# Altium integrated library Analog Devices Switches and Multiplexers Multiplexers (Muxes).IntLib: 481 symbols (part 22 of 23)
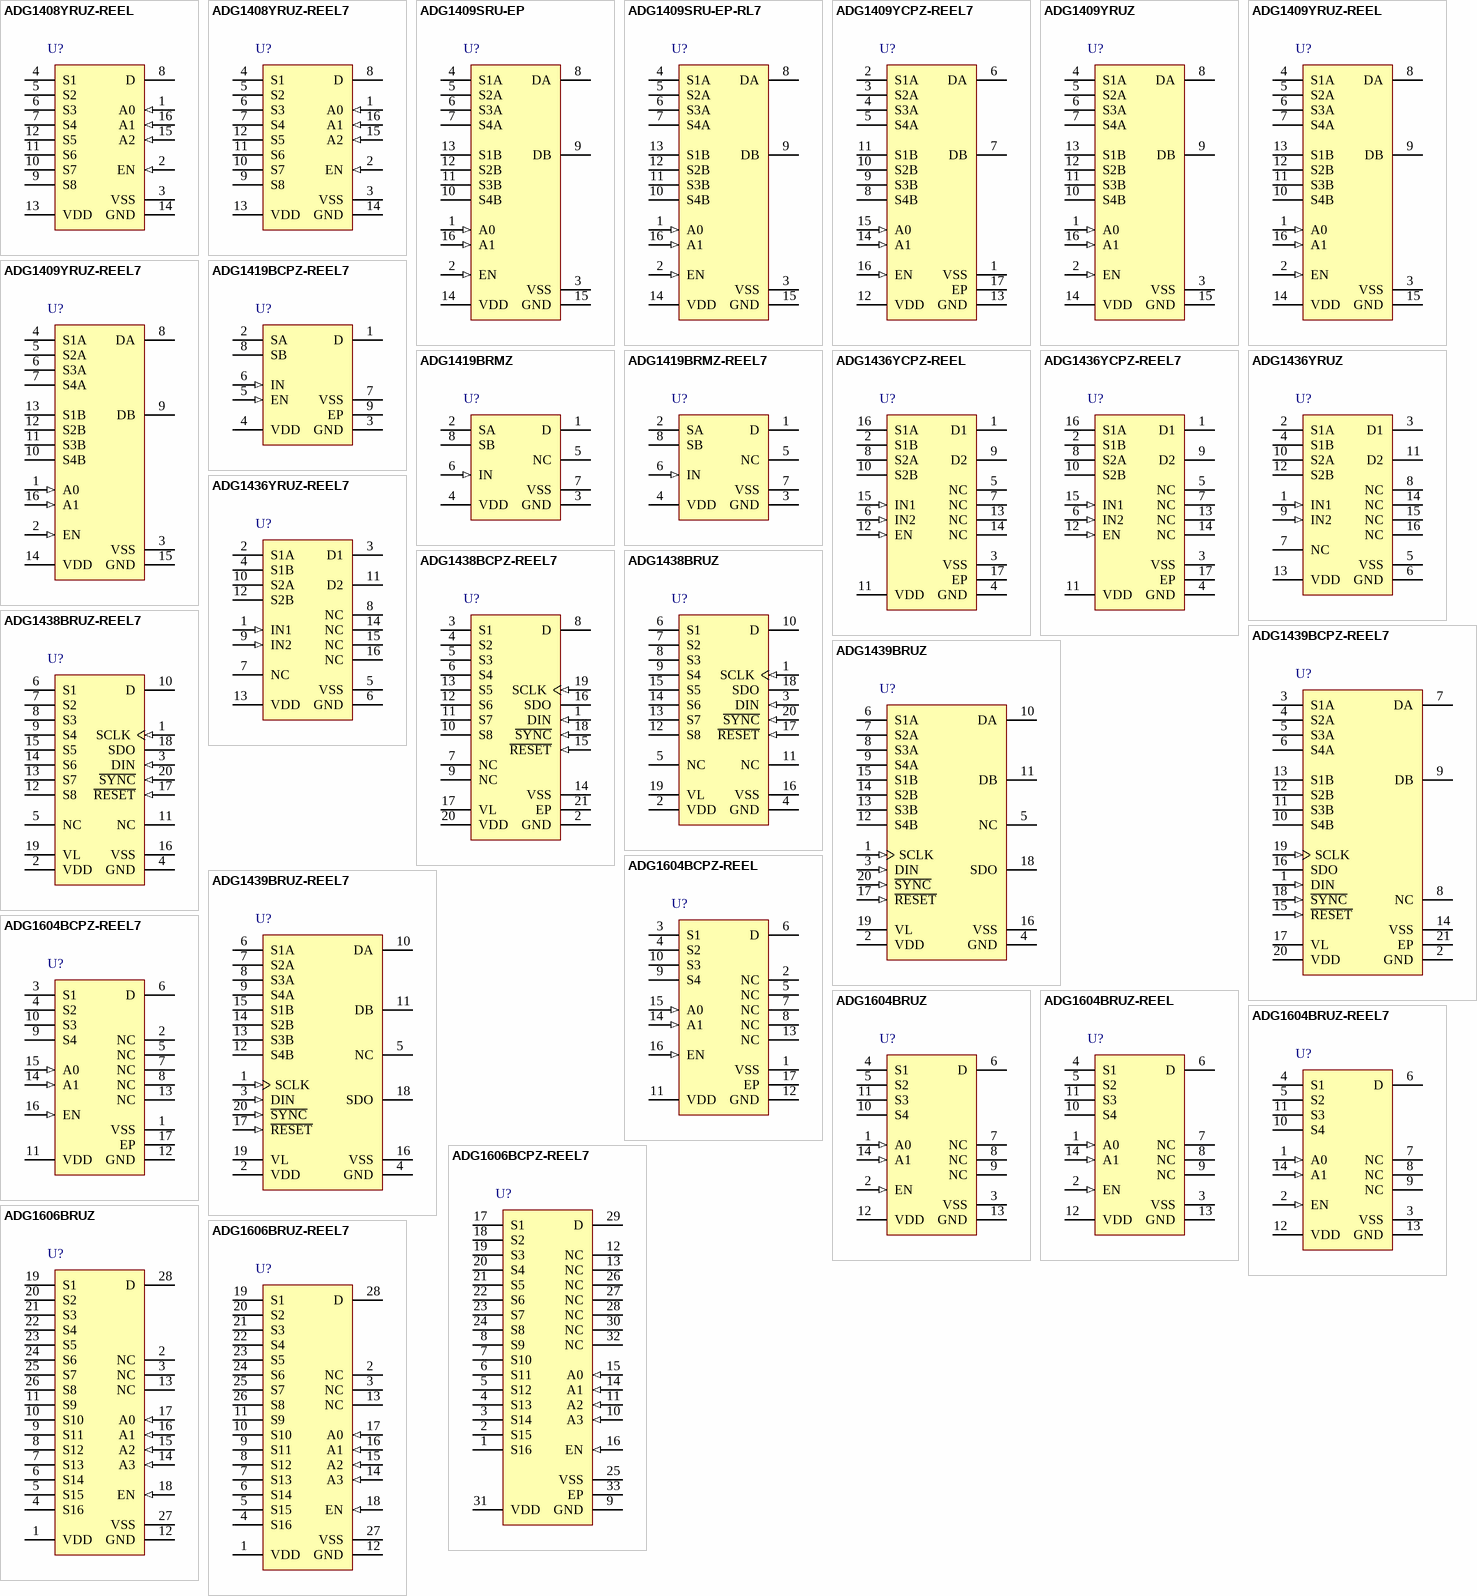
[diagram p38: symbols ADG1408YRUZ-REEL to ADG1606BRUZ-REEL7]

## ADG1606BCPZ-REEL7
designator U?
4.5 Ohm Ron, 16-Channel, +/-5 V, +12 V, +5 V and +3.3 V Multiplexer, 32-pin QFN (CP-32-2), Reel; Manufacturer: Analog Devices; PartNumber: ADG1606BCPZ-REEL7; Bandwidth (Hz): 21M, 22M, 19M, 17M; Max Analog Signal Range: Vss to Vdd; Ron (ohms): 4; t transition (s): 143n; DatasheetVersion: Rev. 0; PackageVersion: Jan-05; PackageReference: CP-32-2; PackageDescription: 32-Pin Lead Frame Chip Scale Package, Body 5 x 5 mm, Pitch 0.5 mm; Supplier 1: Digi-Key; Supplier Part Number 1: ADG1606BCPZ-REEL7TR-ND; Supplier 2: Digi-Key; Supplier Part Number 2: ADG1606BCPZ-REEL7CT-ND; Supplier 3: Digi-Key; Supplier Part Number 3: ADG1606BCPZ-REEL7DKR-ND; Supplier 4: Farnell; Supplier Part Number 4: 2312941; Supplier 5: Newark; Supplier Part Number 5: 63R9735; Supplier 6: Newark; Supplier Part Number 6: 67W3123; Supplier 7: Mouser; Supplier Part Number 7: 584-ADG1606BCPZ-R7; Packing: Reel; Mounting Technology: Surface Mount; Code_JEDEC: MO-220-VHHD-2; ComponentLink1Description: Manufacturer URL; ComponentLink1URL: http://www.analog.com/en/index.html; ComponentLink2Description: Datasheet; ComponentLink2URL: http://www.analog.com/static/imported-files/data_sheets/ADG1606_1607.pdf; ComponentLink3Description: Package Specification; ComponentLink3URL: http://www.analog.com/static/imported-files/packages/414143737956480539664569CP_32_2.pdf
footprint ADI-CP-32-2_N (QFN, 32-Leads, Body 5x5mm, Pitch 0.5mm, Thermal Pad 3.1x3.1mm, IPC Medium Density)
footprint ADI-CP-32-2_L (QFN, 32-Leads, Body 5x5mm, Pitch 0.5mm, Thermal Pad 3.1x3.1mm, IPC High Density)
footprint ADI-CP-32-2_M (QFN, 32-Leads, Body 5x5mm, Pitch 0.5mm, Thermal Pad 3.1x3.1mm, IPC Low Density)
pins: 1 S16 "Source Terminal 16. This pin can be an input or an output.", 2 S15 "Source Terminal 15. This pin can be an input or an output.", 3 S14 "Source Terminal 14. This pin can be an input or an output.", 4 S13 "Source Terminal 13. This pin can be an input or an output.", 5 S12 "Source Terminal 12. This pin can be an input or an output.", 6 S11 "Source Terminal 11. This pin can be an input or an output.", 7 S10 "Source Terminal 10. This pin can be an input or an output.", 8 S9 "Source Terminal 9. This pin can be an input or an output.", 9 GND (power) "Ground (0 V) Reference.", 10 A3 (in) "Logic Control Input.", 11 A2 (in) "Logic Control Input.", 12 NC "No connect.", 13 NC "No connect.", 14 A1 (in) "Logic Control Input.", 15 A0 (in) "Logic Control Input.", 16 EN (in) "Active High Digital Input. When this pin is low, the device is disabled and all switches are turned off. When this pin is high, the Ax logic inputs determine which switch is turned on.", 17 S1 "Source Terminal 1. This pin can be an input or an output.", 18 S2 "Source Terminal 2. This pin can be an input or an output.", 19 S3 "Source Terminal 3. This pin can be an input or an output.", 20 S4 "Source Terminal 4. This pin can be an input or an output.", 21 S5 "Source Terminal 5. This pin can be an input or an output.", 22 S6 "Source Terminal 6. This pin can be an input or an output.", 23 S7 "Source Terminal 7. This pin can be an input or an output.", 24 S8 "Source Terminal 8. This pin can be an input or an output.", 25 VSS (power) "Most Negative Power Supply Potential. In single-supply applications, this pin can be connected to ground.", 26 NC "No connect.", 27 NC "No connect.", 28 NC "No connect.", 29 D "Drain Terminal. This pin can be an input or an output.", 30 NC "No connect.", 31 VDD (power) "Most Positive Power Supply Potential.", 32 NC "No connect.", 33 EP (power) "The exposed pad is connected internally. For increased reliability of the solder joints and maximum thermal capability, it is recommended that the pad be soldered to the substrate, VSS."

## ADG1606BRUZ
designator U?
4.5 Ohm Ron, 16-Channel, +/-5 V, +12 V, +5 V and +3.3 V Multiplexer, 28-pin SOP (RU-28), Tube; Manufacturer: Analog Devices; PartNumber: ADG1606BRUZ; Bandwidth (Hz): 21M, 22M, 19M, 17M; Max Analog Signal Range: Vss to Vdd; Ron (ohms): 4; t transition (s): 143n; DatasheetVersion: Rev. 0; PackageVersion: Mar-05; PackageReference: RU-28; PackageDescription: 28-Pin Thin Shrink Small Outline Package, Body 9.7 x 4.4 mm, Pitch 0.65 mm; Supplier 1: Digi-Key; Supplier Part Number 1: ADG1606BRUZ-ND; Supplier 2: Farnell; Supplier Part Number 2: 1827328; Supplier 3: Newark; Supplier Part Number 3: 52R8046; Supplier 4: Mouser; Supplier Part Number 4: 584-ADG1606BRUZ; Packing: Tube; Mounting Technology: Surface Mount; Code_JEDEC: MO-153-AE; ComponentLink1Description: Manufacturer URL; ComponentLink1URL: http://www.analog.com/en/index.html; ComponentLink2Description: Datasheet; ComponentLink2URL: http://www.analog.com/static/imported-files/data_sheets/ADG1606_1607.pdf; ComponentLink3Description: Package Specification; ComponentLink3URL: http://www.analog.com/static/imported-files/packages/249854663RU_28.pdf
footprint ADI-RU-28_N (SOP, 28-Leads, Body 9.7x4.4mm, Pitch 0.65mm, IPC Medium Density)
footprint ADI-RU-28_L (SOP, 28-Leads, Body 9.7x4.4mm, Pitch 0.65mm, IPC High Density)
footprint ADI-RU-28_M (SOP, 28-Leads, Body 9.7x4.4mm, Pitch 0.65mm, IPC Low Density)
pins: 1 VDD (power) "Most Positive Power Supply Potential.", 2 NC "No Connect.", 3 NC "No Connect.", 4 S16 "Source Terminal 16. This pin can be an input or an output.", 5 S15 "Source Terminal 15. This pin can be an input or an output.", 6 S14 "Source Terminal 14. This pin can be an input or an output.", 7 S13 "Source Terminal 13. This pin can be an input or an output.", 8 S12 "Source Terminal 12. This pin can be an input or an output.", 9 S11 "Source Terminal 11. This pin can be an input or an output.", 10 S10 "Source Terminal 10. This pin can be an input or an output.", 11 S9 "Source Terminal 9. This pin can be an input or an output.", 12 GND (power) "Ground (0 V) Reference.", 13 NC "No Connect.", 14 A3 (in) "Logic Control Input.", 15 A2 (in) "Logic Control Input.", 16 A1 (in) "Logic Control Input.", 17 A0 (in) "Logic Control Input.", 18 EN (in) "Active High Digital Input. When this pin is low, the device is disabled and all switches are turned off. When this pin is high, the Ax logic inputs determine which switch is turned on.", 19 S1 "Source Terminal 1. This pin can be an input or an output.", 20 S2 "Source Terminal 2. This pin can be an input or an output.", 21 S3 "Source Terminal 3. This pin can be an input or an output.", 22 S4 "Source Terminal 4. This pin can be an input or an output.", 23 S5 "Source Terminal 5. This pin can be an input or an output.", 24 S6 "Source Terminal 6. This pin can be an input or an output.", 25 S7 "Source Terminal 7. This pin can be an input or an output.", 26 S8 "Source Terminal 8. This pin can be an input or an output.", 27 VSS (power) "Most Negative Power Supply Potential. In single-supply applications, this pin can be connected to ground.", 28 D "Drain Terminal. This pin can be an input or an output."

## ADG1606BRUZ-REEL7
designator U?
4.5 Ohm Ron, 16-Channel, +/-5 V,+12 V,+5 V and +3.3 V Multiplexer, 28-pin SOP (RU-28), Reel; Manufacturer: Analog Devices; PartNumber: ADG1606BRUZ-REEL7; Bandwidth (Hz): 21M, 22M, 19M, 17M; Max Analog Signal Range: Vss to Vdd; Ron (ohms): 4; t transition (s): 143n; DatasheetVersion: Rev. 0; PackageVersion: Mar-05; PackageReference: RU-28; PackageDescription: 28-Pin Thin Shrink Small Outline Package, Body 9.7 x 4.4 mm, Pitch 0.65 mm; Supplier 1: Digi-Key; Supplier Part Number 1: ADG1606BRUZ-REEL7-ND; Supplier 2: Newark; Supplier Part Number 2: 52R8047; Supplier 3: Mouser; Supplier Part Number 3: 584-ADG1606BRUZ-R7; Packing: Reel; Mounting Technology: Surface Mount; Code_JEDEC: MO-153-AE; ComponentLink1Description: Manufacturer URL; ComponentLink1URL: http://www.analog.com/en/index.html; ComponentLink2Description: Datasheet; ComponentLink2URL: http://www.analog.com/static/imported-files/data_sheets/ADG1606_1607.pdf; ComponentLink3Description: Package Specification; ComponentLink3URL: http://www.analog.com/static/imported-files/packages/249854663RU_28.pdf
footprint ADI-RU-28_N (SOP, 28-Leads, Body 9.7x4.4mm, Pitch 0.65mm, IPC Medium Density)
footprint ADI-RU-28_L (SOP, 28-Leads, Body 9.7x4.4mm, Pitch 0.65mm, IPC High Density)
footprint ADI-RU-28_M (SOP, 28-Leads, Body 9.7x4.4mm, Pitch 0.65mm, IPC Low Density)
pins: 1 VDD (power) "Most Positive Power Supply Potential.", 2 NC "No Connect.", 3 NC "No Connect.", 4 S16 "Source Terminal 16. This pin can be an input or an output.", 5 S15 "Source Terminal 15. This pin can be an input or an output.", 6 S14 "Source Terminal 14. This pin can be an input or an output.", 7 S13 "Source Terminal 13. This pin can be an input or an output.", 8 S12 "Source Terminal 12. This pin can be an input or an output.", 9 S11 "Source Terminal 11. This pin can be an input or an output.", 10 S10 "Source Terminal 10. This pin can be an input or an output.", 11 S9 "Source Terminal 9. This pin can be an input or an output.", 12 GND (power) "Ground (0 V) Reference.", 13 NC "No Connect.", 14 A3 (in) "Logic Control Input.", 15 A2 (in) "Logic Control Input.", 16 A1 (in) "Logic Control Input.", 17 A0 (in) "Logic Control Input.", 18 EN (in) "Active High Digital Input. When this pin is low, the device is disabled and all switches are turned off. When this pin is high, the Ax logic inputs determine which switch is turned on.", 19 S1 "Source Terminal 1. This pin can be an input or an output.", 20 S2 "Source Terminal 2. This pin can be an input or an output.", 21 S3 "Source Terminal 3. This pin can be an input or an output.", 22 S4 "Source Terminal 4. This pin can be an input or an output.", 23 S5 "Source Terminal 5. This pin can be an input or an output.", 24 S6 "Source Terminal 6. This pin can be an input or an output.", 25 S7 "Source Terminal 7. This pin can be an input or an output.", 26 S8 "Source Terminal 8. This pin can be an input or an output.", 27 VSS (power) "Most Negative Power Supply Potential. In single-supply applications, this pin can be connected to ground.", 28 D "Drain Terminal. This pin can be an input or an output."

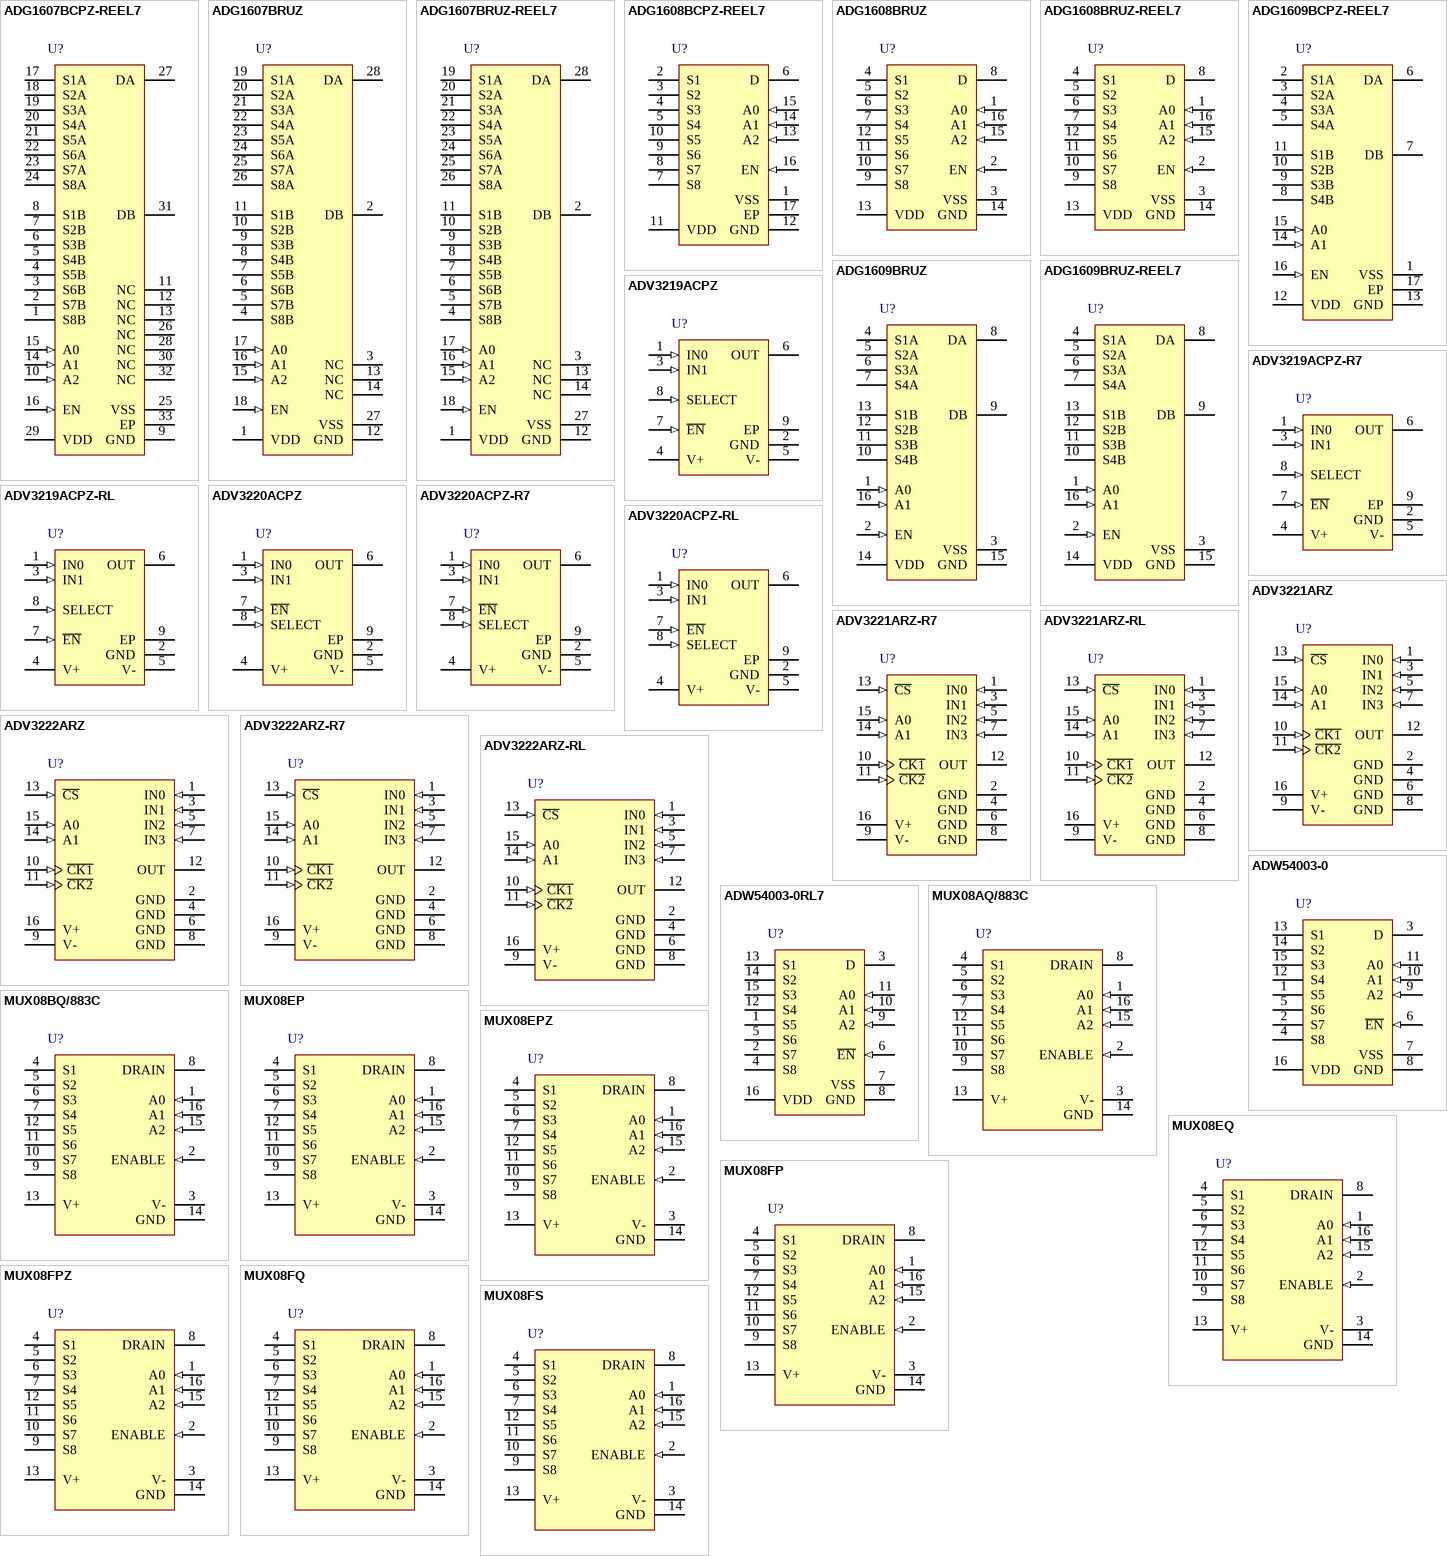
[diagram p16: symbols ADG1607BCPZ-REEL7 to MUX08FS]

## ADG1607BCPZ-REEL7
designator U?
4.5 Ohm RON, Differential 8-Channel, +/-5 V,+12 V,+5 V and +3.3 V Multiplexer, 32-pin QFN (CP-32-2), Reel; Manufacturer: Analog Devices; PartNumber: ADG1607BCPZ-REEL7; Bandwidth (Hz): 37M, 38M, 34M, 31M; Max Analog Signal Range: Vss to Vdd; Ron (ohms): 4; t transition (s): 143n; DatasheetVersion: Rev. 0; PackageVersion: Jan-05; PackageReference: CP-32-2; PackageDescription: 32-Pin Lead Frame Chip Scale Package, Body 5 x 5 mm, Pitch 0.5 mm; Supplier 1: Digi-Key; Supplier Part Number 1: ADG1607BCPZ-REEL7TR-ND; Supplier 2: Digi-Key; Supplier Part Number 2: ADG1607BCPZ-REEL7CT-ND; Supplier 3: Digi-Key; Supplier Part Number 3: ADG1607BCPZ-REEL7DKR-ND; Supplier 4: Mouser; Supplier Part Number 4: 584-ADG1607BCPZ-R7; Packing: Reel; Mounting Technology: Surface Mount; Code_JEDEC: MO-220-VHHD-2; ComponentLink1Description: Manufacturer URL; ComponentLink1URL: http://www.analog.com/en/index.html; ComponentLink2Description: Datasheet; ComponentLink2URL: http://www.analog.com/static/imported-files/data_sheets/ADG1606_1607.pdf; ComponentLink3Description: Package Specification; ComponentLink3URL: http://www.analog.com/static/imported-files/packages/414143737956480539664569CP_32_2.pdf
footprint ADI-CP-32-2_N (QFN, 32-Leads, Body 5x5mm, Pitch 0.5mm, Thermal Pad 3.1x3.1mm, IPC Medium Density)
footprint ADI-CP-32-2_L (QFN, 32-Leads, Body 5x5mm, Pitch 0.5mm, Thermal Pad 3.1x3.1mm, IPC High Density)
footprint ADI-CP-32-2_M (QFN, 32-Leads, Body 5x5mm, Pitch 0.5mm, Thermal Pad 3.1x3.1mm, IPC Low Density)
pins: 1 S8B "Source Terminal 8B. Can be an input or an output.", 2 S7B "Source Terminal 7B. Can be an input or an output.", 3 S6B "Source Terminal 6B. Can be an input or an output.", 4 S5B "Source Terminal 5B. Can be an input or an output.", 5 S4B "Source Terminal 4B. Can be an input or an output.", 6 S3B "Source Terminal 3B. Can be an input or an output.", 7 S2B "Source Terminal 2B. Can be an input or an output.", 8 S1B "Source Terminal 1B. Can be an input or an output.", 9 GND (power) "Ground (0 V) Reference.", 10 A2 (in) "Logic Control Input.", 11 NC "No Connect.", 12 NC "No Connect.", 13 NC "No Connect.", 14 A1 (in) "Logic Control Input.", 15 A0 (in) "Logic Control Input.", 16 EN (in) "Active High Digital Input. When this pin is low, the device is disabled and all switches are turned off. When this pin is high, the Ax logic inputs determine which switch is turned on.", 17 S1A "Source Terminal 1A. Can be an input or an output.", 18 S2A "Source Terminal 2A. Can be an input or an output.", 19 S3A "Source Terminal 3A. Can be an input or an output.", 20 S4A "Source Terminal 4A. Can be an input or an output.", 21 S5A "Source Terminal 5A. Can be an input or an output.", 22 S6A "Source Terminal 6A. Can be an input or an output.", 23 S7A "Source Terminal 7A. Can be an input or an output.", 24 S8A "Source Terminal 8A. Can be an input or an output.", 25 VSS (power) "Most Negative Power Supply Potential. In single-supply applications, this pin can be connected to ground.", 26 NC "No Connect.", 27 DA "Drain Terminal A. Can be an input or an output.", 28 NC "No Connect.", 29 VDD (power) "Most Positive Power Supply Potential.", 30 NC "No Connect.", 31 DB "Drain Terminal B. Can be an input or an output.", 32 NC "No Connect.", 33 EP (power) "Exposed Pad Tied to Substrate, Vss."

## ADG1607BRUZ
designator U?
4.5 Ohm Ron, Differential 8-Channel, +/-5 V, +12 V, +5 V, and +3.3 V Multiplexer, 28-pin SOP (RU-28), Tube; Manufacturer: Analog Devices; PartNumber: ADG1607BRUZ; Bandwidth (Hz): 37M, 38M, 34M, 31M; Max Analog Signal Range: Vss to Vdd; Ron (ohms): 4; t transition (s): 143n; DatasheetVersion: Rev. 0; PackageVersion: Mar-05; PackageReference: RU-28; PackageDescription: 28-Pin Thin Shrink Small Outline Package, Body 9.7 x 4.4 mm, Pitch 0.65 mm; Supplier 1: Digi-Key; Supplier Part Number 1: ADG1607BRUZ-ND; Supplier 2: Farnell; Supplier Part Number 2: 1827329; Supplier 3: Newark; Supplier Part Number 3: 52R8048; Supplier 4: Newark; Supplier Part Number 4: 81R1668; Supplier 5: Mouser; Supplier Part Number 5: 584-ADG1607BRUZ; Packing: Tube; Mounting Technology: Surface Mount; Code_JEDEC: MO-153-AE; ComponentLink1Description: Manufacturer URL; ComponentLink1URL: http://www.analog.com/en/index.html; ComponentLink2Description: Datasheet; ComponentLink2URL: http://www.analog.com/static/imported-files/data_sheets/ADG1606_1607.pdf; ComponentLink3Description: Package Specification; ComponentLink3URL: http://www.analog.com/static/imported-files/packages/249854663RU_28.pdf
footprint ADI-RU-28_N (SOP, 28-Leads, Body 9.7x4.4mm, Pitch 0.65mm, IPC Medium Density)
footprint ADI-RU-28_L (SOP, 28-Leads, Body 9.7x4.4mm, Pitch 0.65mm, IPC High Density)
footprint ADI-RU-28_M (SOP, 28-Leads, Body 9.7x4.4mm, Pitch 0.65mm, IPC Low Density)
pins: 1 VDD (power) "Most Positive Power Supply Potential.", 2 DB "Drain Terminal B. This pin can be an input or an output.", 3 NC "No Connect.", 4 S8B "Source Terminal 8B. This pin can be an input or an output.", 5 S7B "Source Terminal 7B. This pin can be an input or an output.", 6 S6B "Source Terminal 6B. This pin can be an input or an output.", 7 S5B "Source Terminal 5B. This pin can be an input or an output.", 8 S4B "Source Terminal 4B. This pin can be an input or an output.", 9 S3B "Source Terminal 3B. This pin can be an input or an output.", 10 S2B "Source Terminal 2B. This pin can be an input or an output.", 11 S1B "Source Terminal 1B. This pin can be an input or an output.", 12 GND (power) "Ground (0 V) Reference.", 13 NC "No Connect.", 14 NC "No Connect.", 15 A2 (in) "Logic Control Input.", 16 A1 (in) "Logic Control Input.", 17 A0 (in) "Logic Control Input.", 18 EN (in) "Active High Digital Input. When this pin is low, the device is disabled and all switches are turned off. When this pin is high, the Ax logic inputs determine which switch is turned on.", 19 S1A "Source Terminal 1A. This pin can be an input or an output.", 20 S2A "Source Terminal 2A. This pin can be an input or an output.", 21 S3A "Source Terminal 3A. This pin can be an input or an output.", 22 S4A "Source Terminal 4A. This pin can be an input or an output.", 23 S5A "Source Terminal 5A. This pin can be an input or an output.", 24 S6A "Source Terminal 6A. This pin can be an input or an output.", 25 S7A "Source Terminal 7A. This pin can be an input or an output.", 26 S8A "Source Terminal 8A. This pin can be an input or an output.", 27 VSS (power) "Most Negative Power Supply Potential. In single-supply applications, this pin can be connected to ground.", 28 DA "Drain Terminal A. This pin can be an input or an output."

## ADG1607BRUZ-REEL7
designator U?
4.5 Ohm Ron, Differential 8-Channel, +/-5 V,+12 V,+5 V, and +3.3 V Multiplexer, 28-pin SOP (RU-28), Reel; Manufacturer: Analog Devices; PartNumber: ADG1607BRUZ-REEL7; Bandwidth (Hz): 37M, 38M, 34M, 31M; Max Analog Signal Range: Vss to Vdd; Ron (ohms): 4; t transition (s): 143n; DatasheetVersion: Rev. 0; PackageVersion: Mar-05; PackageReference: RU-28; PackageDescription: 28-Pin Thin Shrink Small Outline Package, Body 9.7 x 4.4 mm, Pitch 0.65 mm; Supplier 1: Digi-Key; Supplier Part Number 1: ADG1607BRUZ-REEL7-ND; Supplier 2: Mouser; Supplier Part Number 2: 584-ADG1607BRUZ-R7; Packing: Reel; Mounting Technology: Surface Mount; Code_JEDEC: MO-153-AE; ComponentLink1Description: Manufacturer URL; ComponentLink1URL: http://www.analog.com/en/index.html; ComponentLink2Description: Datasheet; ComponentLink2URL: http://www.analog.com/static/imported-files/data_sheets/ADG1606_1607.pdf; ComponentLink3Description: Package Specification; ComponentLink3URL: http://www.analog.com/static/imported-files/packages/249854663RU_28.pdf
footprint ADI-RU-28_N (SOP, 28-Leads, Body 9.7x4.4mm, Pitch 0.65mm, IPC Medium Density)
footprint ADI-RU-28_L (SOP, 28-Leads, Body 9.7x4.4mm, Pitch 0.65mm, IPC High Density)
footprint ADI-RU-28_M (SOP, 28-Leads, Body 9.7x4.4mm, Pitch 0.65mm, IPC Low Density)
pins: 1 VDD (power) "Most Positive Power Supply Potential.", 2 DB "Drain Terminal B. This pin can be an input or an output.", 3 NC "No Connect.", 4 S8B "Source Terminal 8B. This pin can be an input or an output.", 5 S7B "Source Terminal 7B. This pin can be an input or an output.", 6 S6B "Source Terminal 6B. This pin can be an input or an output.", 7 S5B "Source Terminal 5B. This pin can be an input or an output.", 8 S4B "Source Terminal 4B. This pin can be an input or an output.", 9 S3B "Source Terminal 3B. This pin can be an input or an output.", 10 S2B "Source Terminal 2B. This pin can be an input or an output.", 11 S1B "Source Terminal 1B. This pin can be an input or an output.", 12 GND (power) "Ground (0 V) Reference.", 13 NC "No Connect.", 14 NC "No Connect.", 15 A2 (in) "Logic Control Input.", 16 A1 (in) "Logic Control Input.", 17 A0 (in) "Logic Control Input.", 18 EN (in) "Active High Digital Input. When this pin is low, the device is disabled and all switches are turned off. When this pin is high, the Ax logic inputs determine which switch is turned on.", 19 S1A "Source Terminal 1A. This pin can be an input or an output.", 20 S2A "Source Terminal 2A. This pin can be an input or an output.", 21 S3A "Source Terminal 3A. This pin can be an input or an output.", 22 S4A "Source Terminal 4A. This pin can be an input or an output.", 23 S5A "Source Terminal 5A. This pin can be an input or an output.", 24 S6A "Source Terminal 6A. This pin can be an input or an output.", 25 S7A "Source Terminal 7A. This pin can be an input or an output.", 26 S8A "Source Terminal 8A. This pin can be an input or an output.", 27 VSS (power) "Most Negative Power Supply Potential. In single-supply applications, this pin can be connected to ground.", 28 DA "Drain Terminal A. This pin can be an input or an output."

## ADG1608BCPZ-REEL7
designator U?
4.5 Ohm Ron, 8-Channel +/-5 V, +12 V, +5 V and +3.3 V Multiplexer, 16-pin QFN (CP-16-22), Reel; Manufacturer: Analog Devices; PartNumber: ADG1608BCPZ-REEL7; Bandwidth (Hz): 40M, 40M, 37M, 34M; Max Analog Signal Range: 0 to Vdd; Ron (ohms): 4.4; t transition (s): 150n; DatasheetVersion: Rev. 0; PackageVersion: 08-16-2010-E, 09/2011; PackageReference: CP-16-22; PackageDescription: 16-Pin Lead Frame Chip Scale Package, Body 3 x 3 mm, Pitch 0.5 mm; Supplier 1: Digi-Key; Supplier Part Number 1: ADG1608BCPZ-REEL7TR-ND; Supplier 2: Digi-Key; Supplier Part Number 2: ADG1608BCPZ-REEL7CT-ND; Supplier 3: Digi-Key; Supplier Part Number 3: ADG1608BCPZ-REEL7DKR-ND; Supplier 4: Farnell; Supplier Part Number 4: 2312831; Supplier 5: Newark; Supplier Part Number 5: 67W2631; Supplier 6: Newark; Supplier Part Number 6: 67R2180; Supplier 7: Mouser; Supplier Part Number 7: 584-ADG1608BCPZ-R7; Packing: Reel; Mounting Technology: Surface Mount; Code_JEDEC: MO-220-WEED-6; ComponentLink1Description: Manufacturer URL; ComponentLink1URL: http://www.analog.com/en/index.html; ComponentLink2Description: Datasheet; ComponentLink2URL: http://www.analog.com/static/imported-files/data_sheets/ADG1608_1609.pdf; ComponentLink3Description: Package Specification; ComponentLink3URL: http://www.analog.com/static/imported-files/packages/PKG_PDF/LFCSP(CP)/CP-16/CP_16_22.pdf
footprint ADI-CP-16-22_N (QFN, 16-Leads, Body 3x3mm, Pitch 0.5mm, Thermal Pad 1.6x1.6mm, IPC Medium Density)
footprint ADI-CP-16-22_L (QFN, 16-Leads, Body 3x3mm, Pitch 0.5mm, Thermal Pad 1.6x1.6mm, IPC High Density)
footprint ADI-CP-16-22_M (QFN, 16-Leads, Body 3x3mm, Pitch 0.5mm, Thermal Pad 1.6x1.6mm, IPC Low Density)
pins: 1 VSS (power) "Most Negative Power Supply Potential. In single-supply applications, this pin can be connected to ground.", 2 S1 "Source Terminal 1. Can be an input or an output.", 3 S2 "Source Terminal 2. Can be an input or an output.", 4 S3 "Source Terminal 3. Can be an input or an output.", 5 S4 "Source Terminal 4. Can be an input or an output.", 6 D "Drain Terminal. Can be an input or an output.", 7 S8 "Source Terminal 8. Can be an input or an output.", 8 S7 "Source Terminal 7. Can be an input or an output.", 9 S6 "Source Terminal 6. Can be an input or an output.", 10 S5 "Source Terminal 5. Can be an input or an output.", 11 VDD (power) "Most Positive Power Supply Potential.", 12 GND (power) "Ground (0 V) Reference.", 13 A2 (in) "Logic Control Input.", 14 A1 (in) "Logic Control Input.", 15 A0 (in) "Logic Control Input.", 16 EN (in) "Active High Digital Input. When this pin is low, the device is disabled and all switches are off. When this pin is high, Ax logic inputs determine on switches.", 17 EP (power) "Exposed Pad. The exposed pad is connected internally. For increased reliability of the solder joints and maximum thermal capability, it is recommended that the pad be soldered to the substrate, VSS."

## ADG1608BRUZ
designator U?
4.5 Ohm Ron, 8-Channel +/-5 V,+12 V, +5 V and +3.3 V Multiplexer, 16-pin SOP (RU-16), Tube; Manufacturer: Analog Devices; PartNumber: ADG1608BRUZ; Bandwidth (Hz): 40M, 40M, 37M, 34M; Max Analog Signal Range: 0 to Vdd; Ron (ohms): 4.4; t transition (s): 150n; DatasheetVersion: Rev. 0; PackageVersion: Nov-02; PackageReference: RU-16; PackageDescription: 16-Pin Thin Shrink Small Outline Package, Body 5 x 4.4 mm, Pitch 0.65 mm; Supplier 1: Digi-Key; Supplier Part Number 1: ADG1608BRUZ-ND; Supplier 2: Farnell; Supplier Part Number 2: 1827330; Supplier 3: Newark; Supplier Part Number 3: 26R2416; Supplier 4: Mouser; Supplier Part Number 4: 584-ADG1608BRUZ; Packing: Tube; Mounting Technology: Surface Mount; Code_JEDEC: MO-153AB; ComponentLink1Description: Manufacturer URL; ComponentLink1URL: http://www.analog.com/en/index.html; ComponentLink2Description: Datasheet; ComponentLink2URL: http://www.analog.com/static/imported-files/data_sheets/ADG1608_1609.pdf; ComponentLink3Description: Package Specification; ComponentLink3URL: http:/www.analog.com/static/imported-files/packages/36244347913743854010197452789RU16.pdf
footprint ADI-RU-16_N (SOP, 16-Leads, Body 5x4.4mm, Pitch 0.65mm, IPC Medium Density)
footprint ADI-RU-16_L (SOP, 16-Leads, Body 5x4.4mm, Pitch 0.65mm, IPC High Density)
footprint ADI-RU-16_M (SOP, 16-Leads, Body 5x4.4mm, Pitch 0.65mm, IPC Low Density)
pins: 1 A0 (in) "Logic Control Input.", 2 EN (in) "Active High Digital Input. When this pin is low, the device is disabled and all switches are off. When this pin is high, Ax logic inputs determine on switches.", 3 VSS (power) "Most Negative Power Supply Potential. In single-supply applications, this pin can be connected to ground.", 4 S1 "Source Terminal 1. Can be an input or an output.", 5 S2 "Source Terminal 2. Can be an input or an output.", 6 S3 "Source Terminal 3. Can be an input or an output.", 7 S4 "Source Terminal 4. Can be an input or an output.", 8 D "Drain Terminal. Can be an input or an output.", 9 S8 "Source Terminal 8. Can be an input or an output.", 10 S7 "Source Terminal 7. Can be an input or an output.", 11 S6 "Source Terminal 6. Can be an input or an output.", 12 S5 "Source Terminal 5. Can be an input or an output.", 13 VDD (power) "Most Positive Power Supply Potential.", 14 GND (power) "Ground (0 V) Reference.", 15 A2 (in) "Logic Control Input.", 16 A1 (in) "Logic Control Input."

## ADG1608BRUZ-REEL7
designator U?
4.5 Ohm Ron, 8-Channel +/-5 V, +12 V, +5 V and +3.3 V Multiplexer, 16-pin SOP (RU-16), Reel; Manufacturer: Analog Devices; PartNumber: ADG1608BRUZ-REEL7; Bandwidth (Hz): 40M, 40M, 37M, 34M; Max Analog Signal Range: 0 to Vdd; Ron (ohms): 4.4; t transition (s): 150n; DatasheetVersion: Rev. 0; PackageVersion: Nov-02; PackageReference: RU-16; PackageDescription: 16-Pin Thin Shrink Small Outline Package, Body 5 x 4.4 mm, Pitch 0.65 mm; Supplier 1: Digi-Key; Supplier Part Number 1: ADG1608BRUZ-REEL7-ND; Supplier 2: Mouser; Supplier Part Number 2: 584-ADG1608BRUZ-R7; Packing: Reel; Mounting Technology: Surface Mount; Code_JEDEC: MO-153AB; ComponentLink1Description: Manufacturer URL; ComponentLink1URL: http://www.analog.com/en/index.html; ComponentLink2Description: Datasheet; ComponentLink2URL: http://www.analog.com/static/imported-files/data_sheets/ADG1608_1609.pdf; ComponentLink3Description: Package Specification; ComponentLink3URL: http:/www.analog.com/static/imported-files/packages/36244347913743854010197452789RU16.pdf
footprint ADI-RU-16_N (SOP, 16-Leads, Body 5x4.4mm, Pitch 0.65mm, IPC Medium Density)
footprint ADI-RU-16_L (SOP, 16-Leads, Body 5x4.4mm, Pitch 0.65mm, IPC High Density)
footprint ADI-RU-16_M (SOP, 16-Leads, Body 5x4.4mm, Pitch 0.65mm, IPC Low Density)
pins: 1 A0 (in) "Logic Control Input.", 2 EN (in) "Active High Digital Input. When this pin is low, the device is disabled and all switches are off. When this pin is high, Ax logic inputs determine on switches.", 3 VSS (power) "Most Negative Power Supply Potential. In single-supply applications, this pin can be connected to ground.", 4 S1 "Source Terminal 1. Can be an input or an output.", 5 S2 "Source Terminal 2. Can be an input or an output.", 6 S3 "Source Terminal 3. Can be an input or an output.", 7 S4 "Source Terminal 4. Can be an input or an output.", 8 D "Drain Terminal. Can be an input or an output.", 9 S8 "Source Terminal 8. Can be an input or an output.", 10 S7 "Source Terminal 7. Can be an input or an output.", 11 S6 "Source Terminal 6. Can be an input or an output.", 12 S5 "Source Terminal 5. Can be an input or an output.", 13 VDD (power) "Most Positive Power Supply Potential.", 14 GND (power) "Ground (0 V) Reference.", 15 A2 (in) "Logic Control Input.", 16 A1 (in) "Logic Control Input."

## ADG1609BCPZ-REEL7
designator U?
4.5 Ohm Ron, 4-Channel +/-5 V,+12 V, +5 V, and +3.3 V Multiplexer, 16-pin QFN (CP-16-22), Reel; Manufacturer: Analog Devices; PartNumber: ADG1609BCPZ-REEL7; Bandwidth (Hz): 71M, 78M, 72M, 72M; Max Analog Signal Range: Vss to Vdd; Ron (ohms): 4.5; t transition (s): 150n; DatasheetVersion: Rev. 0; PackageVersion: 08-16-2010-E, 09/2011; PackageReference: CP-16-22; PackageDescription: 16-Pin Lead Frame Chip Scale Package, Body 3 x 3 mm, Pitch 0.5 mm; Supplier 1: Digi-Key; Supplier Part Number 1: ADG1609BCPZ-REEL7TR-ND; Supplier 2: Digi-Key; Supplier Part Number 2: ADG1609BCPZ-REEL7CT-ND; Supplier 3: Digi-Key; Supplier Part Number 3: ADG1609BCPZ-REEL7DKR-ND; Supplier 4: Farnell; Supplier Part Number 4: 2312832; Supplier 5: Newark; Supplier Part Number 5: 67W2632; Supplier 6: Newark; Supplier Part Number 6: 67R2181; Supplier 7: Mouser; Supplier Part Number 7: 584-ADG1609BCPZ-R7; Packing: Reel; Mounting Technology: Surface Mount; Code_JEDEC: MO-220-WEED-6; ComponentLink1Description: Manufacturer URL; ComponentLink1URL: http://www.analog.com/en/index.html; ComponentLink2Description: Datasheet; ComponentLink2URL: http://www.analog.com/static/imported-files/data_sheets/ADG1608_1609.pdf; ComponentLink3Description: Package Specification; ComponentLink3URL: http://www.analog.com/static/imported-files/packages/PKG_PDF/LFCSP(CP)/CP-16/CP_16_22.pdf
footprint ADI-CP-16-22_N (QFN, 16-Leads, Body 3x3mm, Pitch 0.5mm, Thermal Pad 1.6x1.6mm, IPC Medium Density)
footprint ADI-CP-16-22_L (QFN, 16-Leads, Body 3x3mm, Pitch 0.5mm, Thermal Pad 1.6x1.6mm, IPC High Density)
footprint ADI-CP-16-22_M (QFN, 16-Leads, Body 3x3mm, Pitch 0.5mm, Thermal Pad 1.6x1.6mm, IPC Low Density)
pins: 1 VSS (power) "Most Negative Power Supply Potential. In single-supply applications, this pin can be connected to ground.", 2 S1A "Source Terminal 1A. Can be an input or an output.", 3 S2A "Source Terminal 2A. Can be an input or an output.", 4 S3A "Source Terminal 3A. Can be an input or an output.", 5 S4A "Source Terminal 4A. Can be an input or an output.", 6 DA "Drain Terminal A. Can be an input or an output.", 7 DB "Drain Terminal B. Can be an input or an output.", 8 S4B "Source Terminal 4B. Can be an input or an output.", 9 S3B "Source Terminal 3B. Can be an input or an output.", 10 S2B "Source Terminal 2B. Can be an input or an output.", 11 S1B "Source Terminal 1B. Can be an input or an output.", 12 VDD (power) "Most Positive Power Supply Potential.", 13 GND (power) "Ground (0 V) Reference.", 14 A1 (in) "Logic Control Input.", 15 A0 (in) "Logic Control Input.", 16 EN (in) "Active High Digital Input. When this pin is low, the device is disabled and all switches are off. When this pin is high, Ax logic inputs determine on switches.", 17 EP (power) "Exposed Pad. The exposed pad is connected internally. For increased reliability of the solder joints and maximum thermal capability, it is recommended that the pad be soldered to the substrate, VSS."

## ADG1609BRUZ
designator U?
4.5 Ohm Ron, 4-Channel +/-5 V,+12 V, +5 V, and +3.3 V Multiplexer, 16-pin SOP (RU-16), Tube; Manufacturer: Analog Devices; PartNumber: ADG1609BRUZ; Bandwidth (Hz): 71M, 78M, 72M, 72M; Max Analog Signal Range: Vss to Vdd; Ron (ohms): 4.5; t transition (s): 150n; DatasheetVersion: Rev. 0; PackageVersion: Nov-02; PackageReference: RU-16; PackageDescription: 16-Pin Thin Shrink Small Outline Package, Body 5 x 4.4 mm, Pitch 0.65 mm; Supplier 1: Digi-Key; Supplier Part Number 1: ADG1609BRUZ-ND; Supplier 2: Farnell; Supplier Part Number 2: 1827331; Supplier 3: Newark; Supplier Part Number 3: 26R2418; Supplier 4: Mouser; Supplier Part Number 4: 584-ADG1609BRUZ; Packing: Tube; Mounting Technology: Surface Mount; Code_JEDEC: MO-153AB; ComponentLink1Description: Manufacturer URL; ComponentLink1URL: http://www.analog.com/en/index.html; ComponentLink2Description: Datasheet; ComponentLink2URL: http://www.analog.com/static/imported-files/data_sheets/ADG1608_1609.pdf; ComponentLink3Description: Package Specification; ComponentLink3URL: http:/www.analog.com/static/imported-files/packages/36244347913743854010197452789RU16.pdf
footprint ADI-RU-16_N (SOP, 16-Leads, Body 5x4.4mm, Pitch 0.65mm, IPC Medium Density)
footprint ADI-RU-16_L (SOP, 16-Leads, Body 5x4.4mm, Pitch 0.65mm, IPC High Density)
footprint ADI-RU-16_M (SOP, 16-Leads, Body 5x4.4mm, Pitch 0.65mm, IPC Low Density)
pins: 1 A0 (in) "Logic Control Input.", 2 EN (in) "Active High Digital Input. When low, the device is disabled and all switches are off. When  high, Ax logic inputs determine on switches.", 3 VSS (power) "Most Negative Power Supply Potential. In single-supply applications, it can be connected to ground.", 4 S1A "Source Terminal 1A. Can be an input or an output.", 5 S2A "Source Terminal 2A. Can be an input or an output.", 6 S3A "Source Terminal 3A. Can be an input or an output.", 7 S4A "Source Terminal 4A. Can be an input or an output.", 8 DA "Drain TerminalA. Can be an input or an output.", 9 DB "Drain Terminal B. Can be an input or an output.", 10 S4B "Source Terminal 4B. Can be an input or an output.", 11 S3B "Source Terminal 3B. Can be an input or an output.", 12 S2B "Source Terminal 2B. Can be an input or an output.", 13 S1B "Source Terminal 1B. Can be an input or an output.", 14 VDD (power) "Most Positive Power Supply Potential.", 15 GND (power) "Ground (0 V) Reference.", 16 A1 (in) "Logic Control Input."

## ADG1609BRUZ-REEL7
designator U?
4.5 Ohm Ron, 4-Channel +/-5 V,+12 V, +5 V, and +3.3 V Multiplexer, 16-pin SOP (RU-16), Reel; Manufacturer: Analog Devices; PartNumber: ADG1609BRUZ-REEL7; Bandwidth (Hz): 71M, 78M, 72M, 72M; Max Analog Signal Range: Vss to Vdd; Ron (ohms): 4.5; t transition (s): 150n; DatasheetVersion: Rev. 0; PackageVersion: Nov-02; PackageReference: RU-16; PackageDescription: 16-Pin Thin Shrink Small Outline Package, Body 5 x 4.4 mm, Pitch 0.65 mm; Supplier 1: Digi-Key; Supplier Part Number 1: ADG1609BRUZ-REEL7-ND; Supplier 2: Mouser; Supplier Part Number 2: 584-ADG1609BRUZ-R7; Packing: Reel; Mounting Technology: Surface Mount; Code_JEDEC: MO-153AB; ComponentLink1Description: Manufacturer URL; ComponentLink1URL: http://www.analog.com/en/index.html; ComponentLink2Description: Datasheet; ComponentLink2URL: http://www.analog.com/static/imported-files/data_sheets/ADG1608_1609.pdf; ComponentLink3Description: Package Specification; ComponentLink3URL: http:/www.analog.com/static/imported-files/packages/36244347913743854010197452789RU16.pdf
footprint ADI-RU-16_N (SOP, 16-Leads, Body 5x4.4mm, Pitch 0.65mm, IPC Medium Density)
footprint ADI-RU-16_L (SOP, 16-Leads, Body 5x4.4mm, Pitch 0.65mm, IPC High Density)
footprint ADI-RU-16_M (SOP, 16-Leads, Body 5x4.4mm, Pitch 0.65mm, IPC Low Density)
pins: 1 A0 (in) "Logic Control Input.", 2 EN (in) "Active High Digital Input. When low, the device is disabled and all switches are off. When  high, Ax logic inputs determine on switches.", 3 VSS (power) "Most Negative Power Supply Potential. In single-supply applications, it can be connected to ground.", 4 S1A "Source Terminal 1A. Can be an input or an output.", 5 S2A "Source Terminal 2A. Can be an input or an output.", 6 S3A "Source Terminal 3A. Can be an input or an output.", 7 S4A "Source Terminal 4A. Can be an input or an output.", 8 DA "Drain TerminalA. Can be an input or an output.", 9 DB "Drain Terminal B. Can be an input or an output.", 10 S4B "Source Terminal 4B. Can be an input or an output.", 11 S3B "Source Terminal 3B. Can be an input or an output.", 12 S2B "Source Terminal 2B. Can be an input or an output.", 13 S1B "Source Terminal 1B. Can be an input or an output.", 14 VDD (power) "Most Positive Power Supply Potential.", 15 GND (power) "Ground (0 V) Reference.", 16 A1 (in) "Logic Control Input."

## ADV3219ACPZ
designator U?
840 MHz, 2:1 Analog Multiplexers, 5 ns, -40 to 85 degC, 8-pin SON (CP-8-11), Tray; Manufacturer: Analog Devices; PartNumber: ADV3219ACPZ; Bandwidth (Hz): 840M; Max Analog Signal Range: +/-3V; Supply V Guar Performance: Dual_(+/-5V); t transition (s): 1n; DatasheetVersion: Rev. 0; PackageVersion: 01-24-2011-B, 01/2011; PackageReference: CP-8-11; PackageDescription: 8-Pin Lead Frame Chip Scale Package, Body 3 x 3 mm, Pitch 0.5 mm; Supplier 1: Digi-Key; Supplier Part Number 1: ADV3219ACPZ-ND; Supplier 2: Farnell; Supplier Part Number 2: 1827356; Supplier 3: Newark; Supplier Part Number 3: 76R7589; Supplier 4: Mouser; Supplier Part Number 4: 584-ADV3219ACPZ; Packing: Tray; Mounting Technology: Surface Mount; Code_JEDEC: MO-229-WEED; ComponentLink1Description: Manufacturer URL; ComponentLink1URL: http://www.analog.com/en/index.html; ComponentLink2Description: Datasheet; ComponentLink2URL: http://www.analog.com/static/imported-files/data_sheets/ADV3219_3220.pdf; ComponentLink3Description: Package Specification; ComponentLink3URL: http://www.analog.com/static/imported-files/packages/PKG_PDF/LFCSP(CP)/CP_8_11.pdf
footprint ADI-CP-8-11_N (SON, 8-Leads, Body 3x3mm, Pitch 0.5mm, Thermal Pad 2.44 x 1.70mm, IPC Medium Density)
footprint ADI-CP-8-11_L (SON, 8-Leads, Body 3x3mm, Pitch 0.5mm, Thermal Pad 2.44 x 1.70mm, IPC High Density)
footprint ADI-CP-8-11_M (SON, 8-Leads, Body 3x3mm, Pitch 0.5mm, Thermal Pad 2.44 x 1.70mm, IPC Low Density)
pins: 1 IN0 (in) "Analog Input.", 2 GND (power) "Ground.", 3 IN1 (in) "Analog Input.", 4 V+ (power) "Positive Power Supply.", 5 V- (power) "Negative Power Supply.", 6 OUT (hiz) "Analog Output.", 7 ~{EN} (in) "Output Enable (Low True).", 8 SELECT (in) "Logic Input for Analog Input Selection.", 9 EP (power) "Exposed Pad. Connect the exposed pad to ground."

## ADV3219ACPZ-R7
designator U?
840 MHz, 2:1 Analog Multiplexers, 5 ns, -40 to 85 degC, 8-pin SON (CP-8-11), Reel; Manufacturer: Analog Devices; PartNumber: ADV3219ACPZ-R7; Bandwidth (Hz): 840M; Max Analog Signal Range: +/-3V; Supply V Guar Performance: Dual_(+/-5V); t transition (s): 1n; DatasheetVersion: Rev. 0; PackageVersion: 01-24-2011-B, 01/2011; PackageReference: CP-8-11; PackageDescription: 8-Pin Lead Frame Chip Scale Package, Body 3 x 3 mm, Pitch 0.5 mm; Supplier 1: Digi-Key; Supplier Part Number 1: ADV3219ACPZ-R7-ND; Supplier 2: Mouser; Supplier Part Number 2: 584-ADV3219ACPZ-R7; Packing: Reel; Mounting Technology: Surface Mount; Code_JEDEC: MO-229-WEED; ComponentLink1Description: Manufacturer URL; ComponentLink1URL: http://www.analog.com/en/index.html; ComponentLink2Description: Datasheet; ComponentLink2URL: http://www.analog.com/static/imported-files/data_sheets/ADV3219_3220.pdf; ComponentLink3Description: Package Specification; ComponentLink3URL: http://www.analog.com/static/imported-files/packages/PKG_PDF/LFCSP(CP)/CP_8_11.pdf
footprint ADI-CP-8-11_N (SON, 8-Leads, Body 3x3mm, Pitch 0.5mm, Thermal Pad 2.44 x 1.70mm, IPC Medium Density)
footprint ADI-CP-8-11_L (SON, 8-Leads, Body 3x3mm, Pitch 0.5mm, Thermal Pad 2.44 x 1.70mm, IPC High Density)
footprint ADI-CP-8-11_M (SON, 8-Leads, Body 3x3mm, Pitch 0.5mm, Thermal Pad 2.44 x 1.70mm, IPC Low Density)
pins: 1 IN0 (in) "Analog Input.", 2 GND (power) "Ground.", 3 IN1 (in) "Analog Input.", 4 V+ (power) "Positive Power Supply.", 5 V- (power) "Negative Power Supply.", 6 OUT (hiz) "Analog Output.", 7 ~{EN} (in) "Output Enable (Low True).", 8 SELECT (in) "Logic Input for Analog Input Selection.", 9 EP (power) "Exposed Pad. Connect the exposed pad to ground."

## ADV3219ACPZ-RL
designator U?
840 MHz, 2:1 Analog Multiplexers, 5 ns, -40 to 85 degC, 8-pin SON (CP-8-11), Reel; Manufacturer: Analog Devices; PartNumber: ADV3219ACPZ-RL; Bandwidth (Hz): 840M; Max Analog Signal Range: +/-3V; Supply V Guar Performance: Dual_(+/-5V); t transition (s): 1n; DatasheetVersion: Rev. 0; PackageVersion: 01-24-2011-B, 01/2011; PackageReference: CP-8-11; PackageDescription: 8-Pin Lead Frame Chip Scale Package, Body 3 x 3 mm, Pitch 0.5 mm; Supplier 1: Digi-Key; Supplier Part Number 1: ADV3219ACPZ-RL-ND; Supplier 2: Mouser; Supplier Part Number 2: 584-ADV3219ACPZ-R; Packing: Reel; Mounting Technology: Surface Mount; Code_JEDEC: MO-229-WEED; ComponentLink1Description: Manufacturer URL; ComponentLink1URL: http://www.analog.com/en/index.html; ComponentLink2Description: Datasheet; ComponentLink2URL: http://www.analog.com/static/imported-files/data_sheets/ADV3219_3220.pdf; ComponentLink3Description: Package Specification; ComponentLink3URL: http://www.analog.com/static/imported-files/packages/PKG_PDF/LFCSP(CP)/CP_8_11.pdf
footprint ADI-CP-8-11_N (SON, 8-Leads, Body 3x3mm, Pitch 0.5mm, Thermal Pad 2.44 x 1.70mm, IPC Medium Density)
footprint ADI-CP-8-11_L (SON, 8-Leads, Body 3x3mm, Pitch 0.5mm, Thermal Pad 2.44 x 1.70mm, IPC High Density)
footprint ADI-CP-8-11_M (SON, 8-Leads, Body 3x3mm, Pitch 0.5mm, Thermal Pad 2.44 x 1.70mm, IPC Low Density)
pins: 1 IN0 (in) "Analog Input.", 2 GND (power) "Ground.", 3 IN1 (in) "Analog Input.", 4 V+ (power) "Positive Power Supply.", 5 V- (power) "Negative Power Supply.", 6 OUT (hiz) "Analog Output.", 7 ~{EN} (in) "Output Enable (Low True).", 8 SELECT (in) "Logic Input for Analog Input Selection.", 9 EP (power) "Exposed Pad. Connect the exposed pad to ground."

## ADV3220ACPZ
designator U?
800 MHz, 2:1 Analog Multiplexers, 5 ns, -40 to 85 degC, 8-pin SON (CP-8-11), Tray; Manufacturer: Analog Devices; PartNumber: ADV3220ACPZ; Bandwidth (Hz): 800M; Max Analog Signal Range: +/-1.5V; Supply V Guar Performance: Dual_(+/-5V); t transition (s): 1n; DatasheetVersion: Rev. 0; PackageVersion: 01-24-2011-B, 01/2011; PackageReference: CP-8-11; PackageDescription: 8-Pin Lead Frame Chip Scale Package, Body 3 x 3 mm, Pitch 0.5 mm; Supplier 1: Digi-Key; Supplier Part Number 1: ADV3220ACPZ-ND; Supplier 2: Farnell; Supplier Part Number 2: 1827357; Supplier 3: Newark; Supplier Part Number 3: 76R7592; Supplier 4: Mouser; Supplier Part Number 4: 584-ADV3220ACPZ; Packing: Tray; Mounting Technology: Surface Mount; Code_JEDEC: MO-229-WEED; ComponentLink1Description: Manufacturer URL; ComponentLink1URL: http://www.analog.com/en/index.html; ComponentLink2Description: Datasheet; ComponentLink2URL: http://www.analog.com/static/imported-files/data_sheets/ADV3219_3220.pdf; ComponentLink3Description: Package Specification; ComponentLink3URL: http://www.analog.com/static/imported-files/packages/PKG_PDF/LFCSP(CP)/CP_8_11.pdf
footprint ADI-CP-8-11_N (SON, 8-Leads, Body 3x3mm, Pitch 0.5mm, Thermal Pad 2.44 x 1.70mm, IPC Medium Density)
footprint ADI-CP-8-11_L (SON, 8-Leads, Body 3x3mm, Pitch 0.5mm, Thermal Pad 2.44 x 1.70mm, IPC High Density)
footprint ADI-CP-8-11_M (SON, 8-Leads, Body 3x3mm, Pitch 0.5mm, Thermal Pad 2.44 x 1.70mm, IPC Low Density)
pins: 1 IN0 (in) "Analog Input.", 2 GND (power) "Ground.", 3 IN1 (in) "Analog Input.", 4 V+ (power) "Positive Power Supply.", 5 V- (power) "Negative Power Supply.", 6 OUT (hiz) "Analog Output.", 7 ~{EN} (in) "Output Enable (Low True).", 8 SELECT (in) "Logic Input for Analog Input Selection.", 9 EP (power) "Exposed Pad. Connect the exposed pad to ground."

## ADV3220ACPZ-R7
designator U?
800 MHz, 2:1 Analog Multiplexers, 5 ns, -40 to 85 degC, 8-pin SON (CP-8-11), Reel; Manufacturer: Analog Devices; PartNumber: ADV3220ACPZ-R7; Bandwidth (Hz): 800M; Max Analog Signal Range: +/-1.5V; Supply V Guar Performance: Dual_(+/-5V); t transition (s): 1n; DatasheetVersion: Rev. 0; PackageVersion: 01-24-2011-B, 01/2011; PackageReference: CP-8-11; PackageDescription: 8-Pin Lead Frame Chip Scale Package, Body 3 x 3 mm, Pitch 0.5 mm; Supplier 1: Digi-Key; Supplier Part Number 1: ADV3220ACPZ-R7-ND; Supplier 2: Mouser; Supplier Part Number 2: 584-ADV3220ACPZ-R7; Packing: Reel; Mounting Technology: Surface Mount; Code_JEDEC: MO-229-WEED; ComponentLink1Description: Manufacturer URL; ComponentLink1URL: http://www.analog.com/en/index.html; ComponentLink2Description: Datasheet; ComponentLink2URL: http://www.analog.com/static/imported-files/data_sheets/ADV3219_3220.pdf; ComponentLink3Description: Package Specification; ComponentLink3URL: http://www.analog.com/static/imported-files/packages/PKG_PDF/LFCSP(CP)/CP_8_11.pdf
footprint ADI-CP-8-11_N (SON, 8-Leads, Body 3x3mm, Pitch 0.5mm, Thermal Pad 2.44 x 1.70mm, IPC Medium Density)
footprint ADI-CP-8-11_L (SON, 8-Leads, Body 3x3mm, Pitch 0.5mm, Thermal Pad 2.44 x 1.70mm, IPC High Density)
footprint ADI-CP-8-11_M (SON, 8-Leads, Body 3x3mm, Pitch 0.5mm, Thermal Pad 2.44 x 1.70mm, IPC Low Density)
pins: 1 IN0 (in) "Analog Input.", 2 GND (power) "Ground.", 3 IN1 (in) "Analog Input.", 4 V+ (power) "Positive Power Supply.", 5 V- (power) "Negative Power Supply.", 6 OUT (hiz) "Analog Output.", 7 ~{EN} (in) "Output Enable (Low True).", 8 SELECT (in) "Logic Input for Analog Input Selection.", 9 EP (power) "Exposed Pad. Connect the exposed pad to ground."

## ADV3220ACPZ-RL
designator U?
800 MHz, 2:1 Analog Multiplexers, 5 ns, -40 to 85 degC, 8-pin SON (CP-8-11), Reel; Manufacturer: Analog Devices; PartNumber: ADV3220ACPZ-RL; Bandwidth (Hz): 800M; Max Analog Signal Range: +/-1.5V; Supply V Guar Performance: Dual_(+/-5V); t transition (s): 1n; DatasheetVersion: Rev. 0; PackageVersion: 01-24-2011-B, 01/2011; PackageReference: CP-8-11; PackageDescription: 8-Pin Lead Frame Chip Scale Package, Body 3 x 3 mm, Pitch 0.5 mm; Supplier 1: Digi-Key; Supplier Part Number 1: ADV3220ACPZ-RL-ND; Supplier 2: Mouser; Supplier Part Number 2: 584-ADV3220ACPZ-R; Packing: Reel; Mounting Technology: Surface Mount; Code_JEDEC: MO-229-WEED; ComponentLink1Description: Manufacturer URL; ComponentLink1URL: http://www.analog.com/en/index.html; ComponentLink2Description: Datasheet; ComponentLink2URL: http://www.analog.com/static/imported-files/data_sheets/ADV3219_3220.pdf; ComponentLink3Description: Package Specification; ComponentLink3URL: http://www.analog.com/static/imported-files/packages/PKG_PDF/LFCSP(CP)/CP_8_11.pdf
footprint ADI-CP-8-11_N (SON, 8-Leads, Body 3x3mm, Pitch 0.5mm, Thermal Pad 2.44 x 1.70mm, IPC Medium Density)
footprint ADI-CP-8-11_L (SON, 8-Leads, Body 3x3mm, Pitch 0.5mm, Thermal Pad 2.44 x 1.70mm, IPC High Density)
footprint ADI-CP-8-11_M (SON, 8-Leads, Body 3x3mm, Pitch 0.5mm, Thermal Pad 2.44 x 1.70mm, IPC Low Density)
pins: 1 IN0 (in) "Analog Input.", 2 GND (power) "Ground.", 3 IN1 (in) "Analog Input.", 4 V+ (power) "Positive Power Supply.", 5 V- (power) "Negative Power Supply.", 6 OUT (hiz) "Analog Output.", 7 ~{EN} (in) "Output Enable (Low True).", 8 SELECT (in) "Logic Input for Analog Input Selection.", 9 EP (power) "Exposed Pad. Connect the exposed pad to ground."

## ADV3221ARZ
designator U?
1000 MHz, 4:1 Analog Multiplexer, 5 ns, -40 to 85 degC, 16-pin SOIC (R-16), Tube; Manufacturer: Analog Devices; PartNumber: ADV3221ARZ; Bandwidth (Hz): 1000M; Max Analog Signal Range: +/-3V; Supply V Guar Performance: Dual_(+/-5V); t transition (s): 1n; DatasheetVersion: Rev. 0; PackageVersion: 060606-A, 06/2006; PackageReference: R-16; PackageDescription: 16-Pin Standard Small Outline Package, Body 9.9 x 3.9 mm, Pitch 1.27 mm; Supplier 1: Digi-Key; Supplier Part Number 1: ADV3221ARZ-ND; Supplier 2: Mouser; Supplier Part Number 2: 584-ADV3221ARZ; Packing: Tube; Mounting Technology: Surface Mount; Code_JEDEC: MS-012-AC; ComponentLink1Description: Manufacturer URL; ComponentLink1URL: http://www.analog.com/en/index.html; ComponentLink2Description: Datasheet; ComponentLink2URL: http://www.analog.com/static/imported-files/data_sheets/ADV3221_3222.pdf; ComponentLink3Description: Package Specification; ComponentLink3URL: http://www.analog.com/static/imported-files/packages/PKG_PDF/SOIC_Narrow%20(R)/R_16.pdf
footprint ADI-R-16_N (SOIC, 16-Leads, Body 9.9x3.9mm, Pitch 1.27mm, IPC Medium Density)
footprint ADI-R-16_L (SOIC, 16-Leads, Body 9.9x3.9mm, Pitch 1.27mm, IPC High Density)
footprint ADI-R-16_M (SOIC, 16-Leads, Body 9.9x3.9mm, Pitch 1.27mm, IPC Low Density)
pins: 1 IN0 (in) "Analog Input", 2 GND (power) "Ground", 3 IN1 (in) "Analog Input", 4 GND (power) "Ground", 5 IN2 (in) "Analog Input", 6 GND (power) "Ground", 7 IN3 (in) "Analog Input", 8 GND (power) "Ground", 9 V- (power) "Negative Power Supply", 10 ~{CK1} (in) "First Rank Clock", 11 ~{CK2} (in) "Second Rank Clock", 12 OUT (hiz) "Analog Output", 13 ~{CS} (in) "Chip Select (Output Enable)", 14 A1 (in) "Select Address Most Significant Bit", 15 A0 (in) "Select Address Least Significant Bit", 16 V+ (power) "Positive Power Supply"

## ADV3221ARZ-R7
designator U?
1000 MHz, 4:1 Analog Multiplexer, 5 ns, -40 to 85 degC, 16-pin SOIC (R-16), Reel; Manufacturer: Analog Devices; PartNumber: ADV3221ARZ-R7; Bandwidth (Hz): 1000M; Max Analog Signal Range: +/-3V; Supply V Guar Performance: Dual_(+/-5V); t transition (s): 1n; DatasheetVersion: Rev. 0; PackageVersion: 060606-A, 06/2006; PackageReference: R-16; PackageDescription: 16-Pin Standard Small Outline Package, Body 9.9 x 3.9 mm, Pitch 1.27 mm; Supplier 1: Digi-Key; Supplier Part Number 1: ADV3221ARZ-R7-ND; Supplier 2: Mouser; Supplier Part Number 2: 584-ADV3221ARZ-R7; Packing: Reel; Mounting Technology: Surface Mount; Code_JEDEC: MS-012-AC; ComponentLink1Description: Manufacturer URL; ComponentLink1URL: http://www.analog.com/en/index.html; ComponentLink2Description: Datasheet; ComponentLink2URL: http://www.analog.com/static/imported-files/data_sheets/ADV3221_3222.pdf; ComponentLink3Description: Package Specification; ComponentLink3URL: http://www.analog.com/static/imported-files/packages/PKG_PDF/SOIC_Narrow%20(R)/R_16.pdf
footprint ADI-R-16_N (SOIC, 16-Leads, Body 9.9x3.9mm, Pitch 1.27mm, IPC Medium Density)
footprint ADI-R-16_L (SOIC, 16-Leads, Body 9.9x3.9mm, Pitch 1.27mm, IPC High Density)
footprint ADI-R-16_M (SOIC, 16-Leads, Body 9.9x3.9mm, Pitch 1.27mm, IPC Low Density)
pins: 1 IN0 (in) "Analog Input", 2 GND (power) "Ground", 3 IN1 (in) "Analog Input", 4 GND (power) "Ground", 5 IN2 (in) "Analog Input", 6 GND (power) "Ground", 7 IN3 (in) "Analog Input", 8 GND (power) "Ground", 9 V- (power) "Negative Power Supply", 10 ~{CK1} (in) "First Rank Clock", 11 ~{CK2} (in) "Second Rank Clock", 12 OUT (hiz) "Analog Output", 13 ~{CS} (in) "Chip Select (Output Enable)", 14 A1 (in) "Select Address Most Significant Bit", 15 A0 (in) "Select Address Least Significant Bit", 16 V+ (power) "Positive Power Supply"